# Altium footprint library Pogo Pins.PcbLib: 2 footprints
Each footprint in its own frame and in the unit in brackets; x right, y up, seen from the top. Pads: shape width x height; smd on the part's side, far side on the other; paste and mask are expansions set on the pad; w line width, h text height; cw(c..) or ccw(c..) is an arc to the next point about the centre after c.
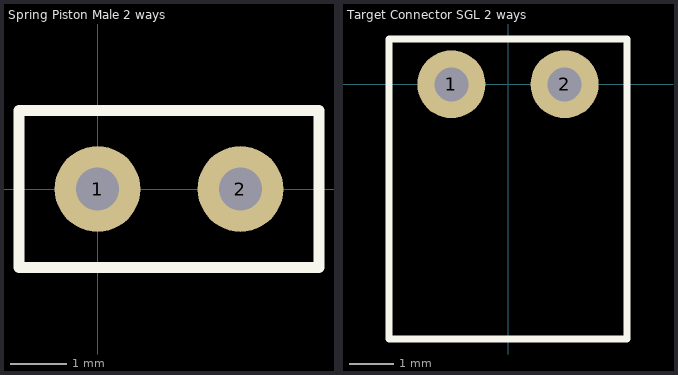
[diagram p0: the footprints below, top view; thin cyan lines are the x and y axes]

## Spring Piston Male 2 ways [mil] "2 Position Spring Piston Male Connector Through Hole"
pads (2):
  round 60 hole 30: 1(0,0) 2(100,0)
Top Overlay:
  lines w7.87: -55,-55 155,-55 155,55 -55,55 -55,-55
3D body "Spring Loaded Connector 825 - 2 ways.STEP": height 308, standoff -109, extent -50,-50 150,50

## Target Connector SGL 2 ways [mil] "64 Position Spring Mating Target Connector Through Hole, Right Angle"
pads (2):
  round 60 hole 30: 1(-50,0) 2(50,0)
Top Overlay:
  lines w6: -105,-225 105,-225 105,40 -105,40 -105,-225
3D body "Target Connector 2 ways.STEP": height 100, standoff -125.83, extent -100,-218.83 100,10